# Altium schematic symbol library NXP.SchLib: 5 symbols
Pins are listed as number, name and electrical type; pins without a type are passive.

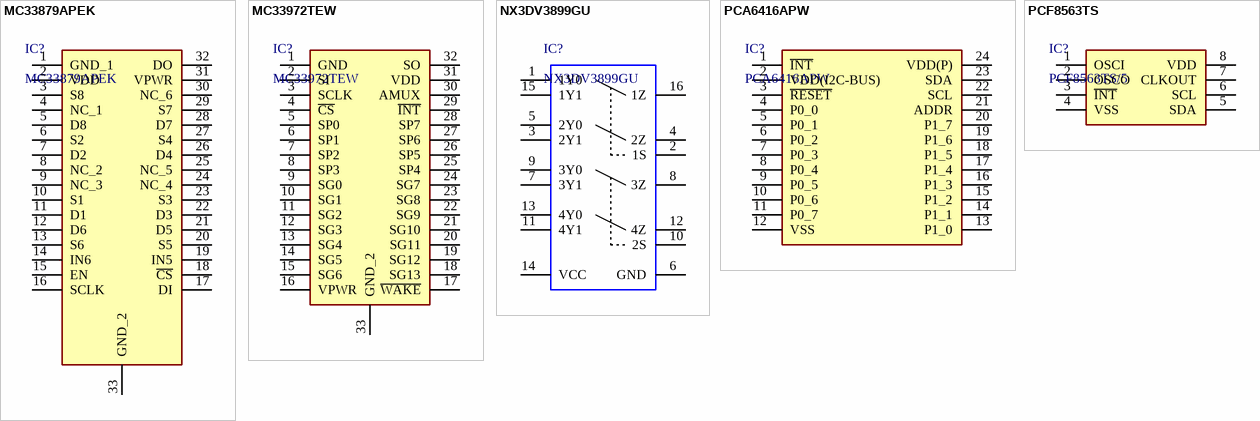
[diagram p0: symbols MC33879APEK to PCF8563TS]

## MC33879APEK
designator IC?
具有负载开路检测电流禁用的可配置八路串行开关; Manufacturer_Name: NXP; Datasheet Link: http://www.nxp.com/docs/en/data-sheet/MC33879.pdf; Height: 2.45mm; Manufacturer_Part_Number: MC33879APEK; Mouser Part Number: 841-MC33879APEK; Mouser Price/Stock: https://www.mouser.co.uk/ProductDetail/NXP-Semiconductors/MC33879APEK?qs=NnG%2FAzKRaglfvXMuXzbPcw%3D%3D; Arrow Part Number: MC33879APEK; Arrow Price/Stock: https://www.arrow.com/en/products/mc33879apek/nxp-semiconductors
footprint SOP65P1030X245-33N
pins: 1 GND_1, 2 VDD, 3 S8, 4 NC_1, 5 D8, 6 S2, 7 D2, 8 NC_2, 9 NC_3, 10 S1, 11 D1, 12 D6, 13 S6, 14 IN6, 15 EN, 16 SCLK, 17 DI, 18 ~{CS}, 19 IN5, 20 S5, 21 D5, 22 D3, 23 S3, 24 NC_4, 25 NC_5, 26 D4, 27 S4, 28 D7, 29 S7, 30 NC_6, 31 VPWR, 32 DO, 33 GND_2

## MC33972TEW
designator IC?
Multiple Switch Detection Interface with Suppressed Wake-up; Manufacturer_Name: NXP; Datasheet Link: http://www.nxp.com/docs/en/data-sheet/MC33972.pdf; Height: 2.65mm; Manufacturer_Part_Number: MC33972TEW; Mouser Part Number: 841-MC33972TEW; Mouser Price/Stock: https://www.mouser.co.uk/ProductDetail/NXP-Semiconductors/MC33972TEW?qs=qY7PjdCYu8RfbyCVU9so1g%3D%3D; Arrow Part Number: MC33972TEW; Arrow Price/Stock: https://www.arrow.com/en/products/mc33972tew/nxp-semiconductors?region=nac
footprint SOP65P1030X265-33N
pins: 1 GND, 2 SI, 3 SCLK, 4 ~{CS}, 5 SP0, 6 SP1, 7 SP2, 8 SP3, 9 SG0, 10 SG1, 11 SG2, 12 SG3, 13 SG4, 14 SG5, 15 SG6, 16 VPWR, 17 ~{WAKE}, 18 SG13, 19 SG12, 20 SG11, 21 SG10, 22 SG9, 23 SG8, 24 SG7, 25 SP4, 26 SP5, 27 SP6, 28 SP7, 29 ~{INT}, 30 AMUX, 31 VDD, 32 SO, 33 GND_2

## NX3DV3899GU
designator IC?
Dual double-pole double-throw analog switch; Manufacturer_Name: NXP; Manufacturer_Part_Number: NX3DV3899GU,115; Revised  By: Z_xiao; Datasheet Link: https://www.nxp.com/docs/en/data-sheet/NX3DV3899.pdf; Height: 0.5mm; Mouser Part Number: 771-NX3DV3899GU115; Mouser Price/Stock: https://www.mouser.co.uk/ProductDetail/NXP-Semiconductors/NX3DV3899GU115?qs=67TfscD5Paea6cyWZ2q8Cg%3D%3D; ComponentLink1Description: Datasheet; ComponentLink1URL: https://www.nxp.com.cn/docs/en/data-sheet/NX3DV3899.pdf; Supplier 1: Arrow Electronics; Supplier Part Number 1: NX3DV3899GU,115
footprint NX3DV3899GU115
pins: 1 1Y0, 2 1S, 3 2Y1, 4 2Z, 5 2Y0, 6 GND, 7 3Y1, 8 3Z, 9 3Y0, 10 2S, 11 4Y1, 12 4Z, 13 4Y0, 14 VCC, 15 1Y1, 16 1Z

## PCA6416APW
designator IC?
Low-voltage translating 16-bit I2C-bus/SMBus I/O expander / with interrupt output, reset, and configuration registers; Manufacturer_Name: NXP; Datasheet Link: https://www.mouser.jp/datasheet/2/302/PCA6416A-1127414.pdf; Height: 1.1mm; Manufacturer_Part_Number: PCA6416APW; Mouser Part Number: N/A; Mouser Price/Stock: https://www.mouser.co.uk/ProductDetail/NXP-Semiconductors/PCA6416APW?qs=fAHHVMwC%252BbjIi1CGohX8Jg%3D%3D
footprint SOP65P640X110-24N
pins: 1 ~{INT}, 2 VDD(I2C-BUS), 3 ~{RESET}, 4 P0_0, 5 P0_1, 6 P0_2, 7 P0_3, 8 P0_4, 9 P0_5, 10 P0_6, 11 P0_7, 12 VSS, 13 P1_0, 14 P1_1, 15 P1_2, 16 P1_3, 17 P1_4, 18 P1_5, 19 P1_6, 20 P1_7, 21 ADDR, 22 SCL, 23 SDA, 24 VDD(P)

## PCF8563TS
designator IC?, comment PCF8563TS/5
PCF8563 是一款低功耗的 CMOS1实时时钟/日历芯片，支持可编程时钟输出、中断输出 / 和低压检测。所有地址和数据通过双线双向I2C总线串联传输，最高速率：400 kbps。每 / 次读写数据字节后，寄存器地址自动累加。; Manufacturer_Name: NXP; Manufacturer_Part_Number: PCF8563TS/4,118; Description: Real Time Clock ULTRA LOW PWR CLOCK RTC IC; Datasheet Link: http://www.nxp.com/docs/en/data-sheet/PCF8563.pdf; Height: 1.1mm; Mouser Part Number: 771-PCF8563TS-T; Mouser Price/Stock: https://www.mouser.co.uk/ProductDetail/NXP-Semiconductors/PCF8563TS-4118?qs=LOCUfHb8d9ugg%2FdJSyv6Ig%3D%3D; Arrow Part Number: PCF8563TS/4,118; Arrow Price/Stock: https://www.arrow.com/en/products/pcf8563ts4118/nxp-semiconductors?region=nac
footprint SOP65P490X110-8N
pins: 1 OSCI, 2 OSCO, 3 ~{INT}, 4 VSS, 5 SDA, 6 SCL, 7 CLKOUT, 8 VDD